# EAGLE library part LMZ23605TZ_NOPB (library SamacSys_Parts)
Texas Instruments, LMZ23605TZ/NOPB DC-DC Converter 5A Adjustable, 0.8 6 V, 7-Pin TO-PMOD Source: Datasheet <http://www.ti.com/lit/gpn/lmz23605>
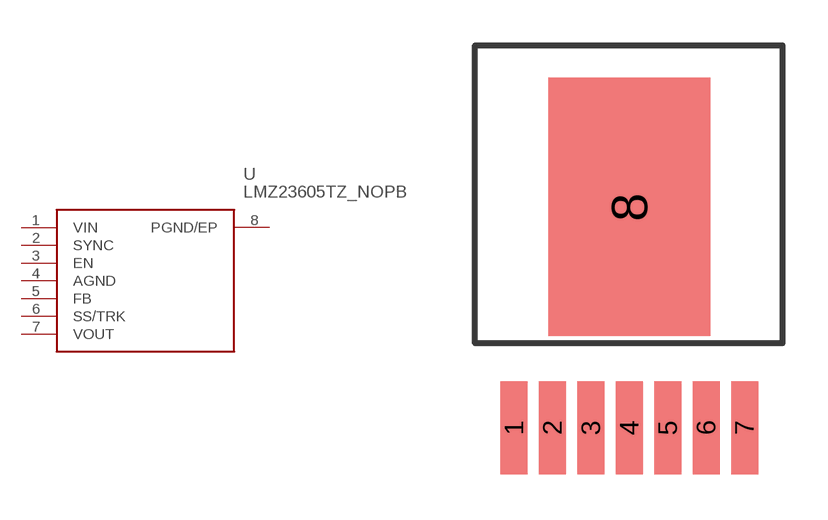
[diagram p12: symbol with the pads of NDW0007A; footprint NDW0007A]

Designator prefix U

## LMZ23605TZ_NOPB (DESCRIPTION: Texas Instruments, LMZ23605TZ/NOPB DC-DC Converter 5A Adjustable, 0.8 6 V, 7-Pin TO-PMOD; HEIGHT: mm; MANUFACTURER_NAME: Texas Instruments; MANUFACTURER_PART_NUMBER: LMZ23605TZ/NOPB; MOUSER_PART_NUMBER: 926-LMZ23605TZ/NOPB; MOUSER_PRICE-STOCK: https://www.mouser.co.uk/ProductDetail/Texas-Instruments/LMZ23605TZ-NOPB?qs=wkWLSBzH0svt2cBayJWOhA%3D%3D)  [NDW0007A]
1  VIN
2  SYNC
3  EN
4  AGND
5  FB
6  SS/TRK
7  VOUT
8  PGND/EP

## Footprint NDW0007A (pad centres in mm)
NDW0007A
smd 0.89 x 3.06: 1 -3.81,0; 2 -2.54,0; 3 -1.27,0; 4 0,0; 5 1.27,0; 6 2.54,0; 7 3.81,0
smd 5.35 x 8.54: 8 0,7.305